# EAGLE library part ARDUINO_NANO_V3 (library BW-Active)
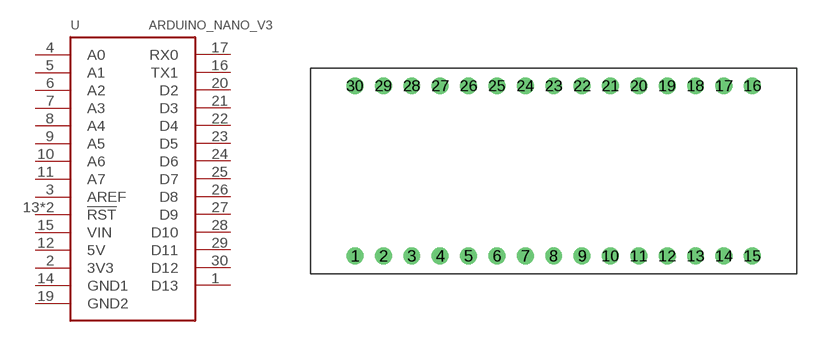
[diagram p28: symbol with the pads of ARDUINO_NANO_V3; footprint ARDUINO_NANO_V3]

Designator prefix -

## ARDUINO_NANO_V3  [ARDUINO_NANO_V3]
1  D13
2  3V3  out
3  AREF
4  A0
5  A1
6  A2
7  A3
8  A4
9  A5
10  A6
11  A7
12  5V  out
13  !RST
14  GND1
15  VIN
16  TX1
17  RX0
18  !RST
19  GND2
20  D2
21  D3
22  D4
23  D5
24  D6
25  D7
26  D8
27  D9
28  D10
29  D11
30  D12

## Footprint ARDUINO_NANO_V3 (pad centres in mm)
drill 1: 1 -17.78,-7.62; 2 -15.24,-7.62; 3 -12.7,-7.62; 4 -10.16,-7.62; 5 -7.62,-7.62; 6 -5.08,-7.62; 7 -2.54,-7.62; 8 0,-7.62; 9 2.54,-7.62; 10 5.08,-7.62; 11 7.62,-7.62; 12 10.16,-7.62; 13 12.7,-7.62; 14 15.24,-7.62; 15 17.78,-7.62; 16 17.78,7.62; 17 15.24,7.62; 18 12.7,7.62; 19 10.16,7.62; 20 7.62,7.62; 21 5.08,7.62; 22 2.54,7.62; 23 0,7.62; 24 -2.54,7.62; 25 -5.08,7.62; 26 -7.62,7.62; 27 -10.16,7.62; 28 -12.7,7.62; 29 -15.24,7.62; 30 -17.78,7.62